# Altium schematic symbol library davicon-eth.SchLib: 1 symbol
Pins are listed as number, name and electrical type; pins without a type are passive.

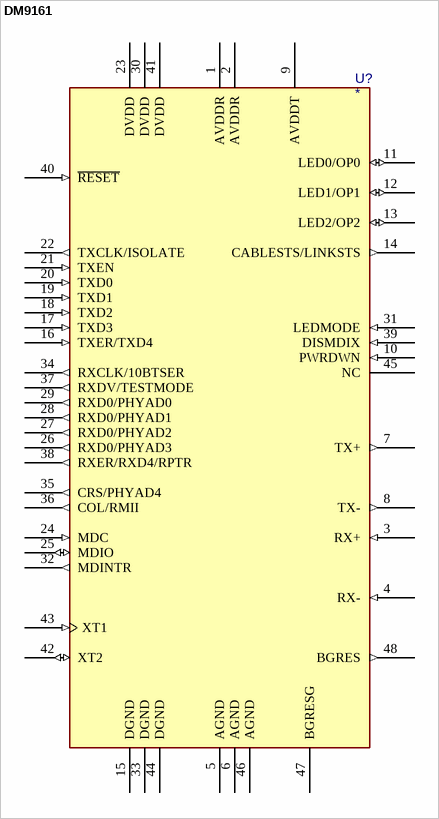
[diagram p0: symbol DM9161]

## DM9161
designator U?
Value: DM9161; PN: *; ExtraInfo: *
footprint TSQFP50P900X900X160-48L (TSQFP, 48-Leads, Body 9.0x9.0mm (max), Pitch 0.50mm, IPC High Density)
pins: 1 AVDDR (power), 2 AVDDR (power), 3 RX+ (in), 4 RX- (in), 5 AGND (power), 6 AGND (power), 7 TX+ (out), 8 TX- (out), 9 AVDDT (power), 10 PWRDWN (in), 11 LED0/OP0 (io), 12 LED1/OP1 (io), 13 LED2/OP2 (io), 14 CABLESTS/LINKSTS (out), 15 DGND (power), 16 TXER/TXD4 (in), 17 TXD3 (in), 18 TXD2 (in), 19 TXD1 (in), 20 TXD0 (in), 21 TXEN (in), 22 TXCLK/ISOLATE (out), 23 DVDD (power), 24 MDC (in), 25 MDIO (io), 26 RXD0/PHYAD3 (out), 27 RXD0/PHYAD2 (out), 28 RXD0/PHYAD1 (out), 29 RXD0/PHYAD0 (out), 30 DVDD (power), 31 LEDMODE (in), 32 MDINTR (out), 33 DGND (power), 34 RXCLK/10BTSER (out), 35 CRS/PHYAD4 (out), 36 COL/RMII (out), 37 RXDV/TESTMODE (out), 38 RXER/RXD4/RPTR (out), 39 DISMDIX (in), 40 ~{RESET} (in), 41 DVDD (power), 42 XT2 (io), 43 XT1 (in), 44 DGND (power), 45 NC, 46 AGND (power), 47 BGRESG (power), 48 BGRES (out)